# Altium schematic symbol library D_TVS_UNI.Schlib: 1 symbol
Pins are listed as number, name and electrical type; pins without a type are passive.

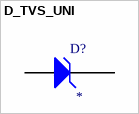
[diagram p0: symbol D_TVS_UNI]

## D_TVS_UNI
designator D?
Diode, Zener
pins: A, C